# Altium footprint library Solderbridge.PcbLib: 2 footprints
Each footprint in its own frame and in the unit in brackets; x right, y up, seen from the top. Pads: shape width x height; smd on the part's side, far side on the other; paste and mask are expansions set on the pad; w line width, h text height; cw(c..) or ccw(c..) is an arc to the next point about the centre after c.
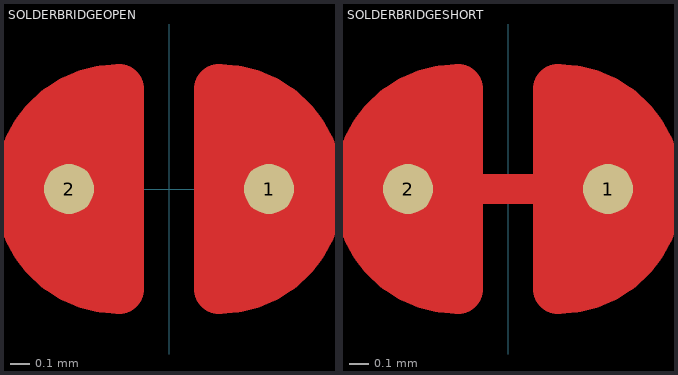
[diagram p0: the footprints below, top view; thin cyan lines are the x and y axes]

## SOLDERBRIDGEOPEN [mil]
pads (2):
  round 10 smd mask+0: 1(20,0) 2(-20,0)
Top Layer:
  region: 10,20 20,20 30,10 30,-10 20,-20 10,-20
  region: -10,20 -20,20 -30,10 -30,-10 -20,-20 -10,-20
  lines w10: -10,-20 cw(c-10,0) -10,20 -10,-20 ; 10,-20 ccw(c10,0) 10,20 10,-20
Top Solder:
  circle w29: c10,0 r11
  circle w29: c-10,0 r11
  lines w10: -10,-20 10,-20 ; -10,20 10,20

## SOLDERBRIDGESHORT [mil]
pads (2):
  round 10 smd mask+0: 1(20,0) 2(-20,0)
Top Layer:
  region: -10,20 -20,20 -30,10 -30,-10 -20,-20 -10,-20
  region: 10,20 20,20 30,10 30,-10 20,-20 10,-20
  lines w6: -20,0 20,0
  lines w10: -10,-20 cw(c-10,0) -10,20 -10,-20 ; 10,-20 ccw(c10,0) 10,20 10,-20
Top Solder:
  circle w29: c-10,0 r11
  circle w29: c10,0 r11
  lines w10: -10,-20 10,-20 ; -10,20 10,20